# EAGLE library part LICHA_03962A (library dl9sec_public)
LiIon/LiPo 1-cell charger 1A with UVP TP4056, DW01A/FS8205A
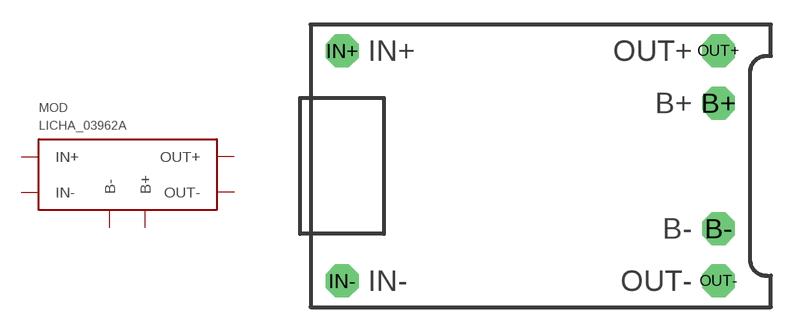
[diagram p3: symbol with the pads of LICHA_03962A; footprint LICHA_03962A]

Designator prefix MOD

## LICHA_03962A  [LICHA_03962A]
B+  B+  pas
B-  B-  pas
IN+  IN+  pas
IN-  IN-  pas
OUT+  OUT+  sup
OUT-  OUT-  pas

## Footprint LICHA_03962A (pad centres in mm)
LiIon/LiPo 1-Cell Charger 1A with UVP TP4056, DW01A/FS8205A
drill 0.8 pad 2 octagon: B+ 24.765,12.383; B- 24.765,4.763; IN+ 1.905,15.557; IN- 1.905,1.587; OUT+ 24.765,15.557; OUT- 24.765,1.587